# Altium schematic symbol library 1SS302.SchLib: 1 symbol
Pins are listed as number, name and electrical type; pins without a type are passive.

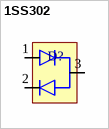
[diagram p0: symbol 1SS302]

## 1SS302
designator D?
pins: 1, 2, 3 7